# Altium schematic symbol library STM32F030C8T6.Schlib: 1 symbol
Pins are listed as number, name and electrical type; pins without a type are passive.

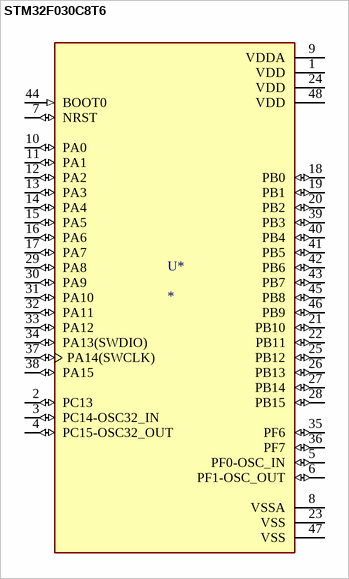
[diagram p0: symbol STM32F030C8T6]

## STM32F030C8T6
designator U*
32-Bit FLASH ARM® Cortex®-M0 48MHz 2.4V ~ 3.6V LQFP-48_7x7x05P ST Microelectronics RoHS; ComponentLink1Description: LCSC - STMicroelectronics STM32F030C8T6; ComponentLink1URL: https://lcsc.com/product-detail/ST-Microelectronics_STMicroelectronics_STM32F030C8T6_STM32F030C8T6_C23922.html/?href=jlc-SMT; LCSC Part #: C23922; JLCPCB Part Type: Basic
footprint ST LQFP-48 7x7MM (LQFP, 48-Leads, Body 7.00x7.00mm, Pitch 0.50mm, IPC Medium Density)
pins: 1 VDD (power), 2 PC13 (io), 3 PC14-OSC32_IN (io), 4 PC15-OSC32_OUT (io), 5 PF0-OSC_IN (io), 6 PF1-OSC_OUT (io), 7 NRST (io), 8 VSSA (power), 9 VDDA (power), 10 PA0 (io), 11 PA1 (io), 12 PA2 (io), 13 PA3 (io), 14 PA4 (io), 15 PA5 (io), 16 PA6 (io), 17 PA7 (io), 18 PB0 (io), 19 PB1 (io), 20 PB2 (io), 21 PB10 (io), 22 PB11 (io), 23 VSS (power), 24 VDD (power), 25 PB12 (io), 26 PB13 (io), 27 PB14 (io), 28 PB15 (io), 29 PA8 (io), 30 PA9 (io), 31 PA10 (io), 32 PA11 (io), 33 PA12 (io), 34 PA13(SWDIO) (io), 35 PF6 (io), 36 PF7 (io), 37 PA14(SWCLK) (io), 38 PA15 (io), 39 PB3 (io), 40 PB4 (io), 41 PB5 (io), 42 PB6 (io), 43 PB7 (io), 44 BOOT0 (in), 45 PB8 (io), 46 PB9 (io), 47 VSS (power), 48 VDD (power)